# Altium footprint library JUMPER.PcbLib: 7 footprints
Each footprint in its own frame and in the unit in brackets; x right, y up, seen from the top. Pads: shape width x height; smd on the part's side, far side on the other; paste and mask are expansions set on the pad; w line width, h text height; cw(c..) or ccw(c..) is an arc to the next point about the centre after c.
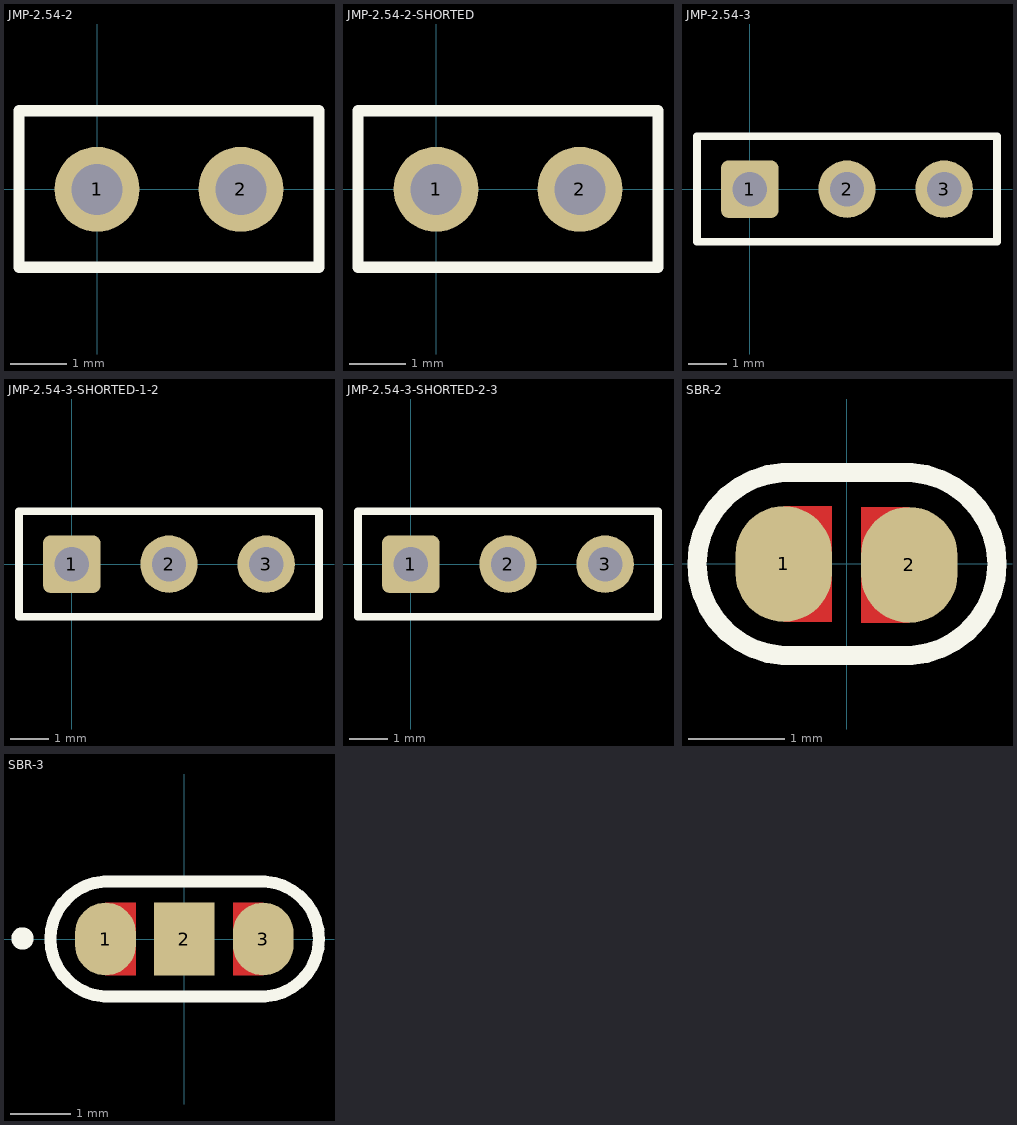
[diagram p0: the footprints below, top view; thin cyan lines are the x and y axes]

## JMP-2.54-2 [mm] "Jumper; Header; 2 Position"
pads (2):
  round 1.5 hole 0.9: 1(0,0) 2(2.54,0)
Top Overlay:
  lines w0.2: -1.38,-1.38 -1.38,1.39 3.92,1.39 3.92,-1.38 -1.38,-1.38
3D body "User Library-PLD-2-1.step": height 8.44, standoff -3, extent -1.27,-1.27 3.81,1.27

## JMP-2.54-2-SHORTED [mm] "Jumper; Header; 2 Position; Shorted"
pads (2):
  round 1.5 hole 0.9: 1(0,0) 2(2.54,0)
Top Overlay:
  lines w0.2: -1.38,-1.38 3.92,-1.38 3.92,1.39 -1.38,1.39 -1.38,-1.38
3D body "User Library-PLD-2-1.step": height 8.44, standoff -3, extent -1.27,-1.27 3.81,1.27
3D body "jumper_aksnt_g-black.stp": height 8.25, standoff 3.75, extent -1.23,-1.2 3.77,1.2

## JMP-2.54-3 [mm] "Jumper; Header; 3 Position"
pads (3):
  rrect25% 1.5x1.5 hole 0.9: 1(0,0)
  round 1.5 hole 0.9: 2(2.54,0) 3(5.08,0)
Top Overlay:
  lines w0.2: -1.38,-1.37 6.46,-1.37 6.46,1.38 -1.38,1.38 -1.38,-1.37
3D body "User Library-PLS-3.step": height 8.54, standoff -3, extent -1.27,-1.27 6.35,1.27

## JMP-2.54-3-SHORTED-1-2 [mm] "Jumper; Header; 3 Position; Shorted"
pads (3):
  rrect25% 1.5x1.5 hole 0.9: 1(0,0)
  round 1.5 hole 0.9: 2(2.54,0) 3(5.08,0)
Top Overlay:
  lines w0.2: -1.38,-1.37 -1.38,1.38 6.46,1.38 6.46,-1.37 -1.38,-1.37
3D body "User Library-PLS-3.step": height 8.54, standoff -3, extent -1.27,-1.27 6.35,1.27
3D body "jumper_aksnt_g-black.stp": height 8.25, standoff 3.75, extent -1.21,-1.2 3.79,1.2

## JMP-2.54-3-SHORTED-2-3 [mm] "Jumper; Header; 3 Position; Shorted"
pads (3):
  rrect25% 1.5x1.5 hole 0.9: 1(0,0)
  round 1.5 hole 0.9: 2(2.54,0) 3(5.08,0)
Top Overlay:
  lines w0.2: -1.38,-1.37 -1.38,1.38 6.46,1.38 6.46,-1.37 -1.38,-1.37
3D body "User Library-PLS-3.step": height 8.54, standoff -3, extent -1.27,-1.27 6.35,1.27
3D body "jumper_aksnt_g-black.stp": height 8.25, standoff 3.75, extent 1.32,-1.2 6.32,1.2

## SBR-2 [mm] "SolderJumper; 2 Positions"
pads (2):
  oval 1x1.2 smd mask+0.05: 1(-0.65,0) 2(0.65,-0.01)
Top Layer:
  rectangle: -0.65,-0.6 -0.15,0.6
  rectangle: 0.15,-0.61 0.65,0.59
Top Overlay:
  lines w0.2: -0.661,-0.949 cw(c-0.599,0) -0.661,0.949 0.67,0.949 cw(c0.609,0) 0.67,-0.949 -0.661,-0.949

## SBR-3 [mm] "SolderJumper; 3 Positions"
pads (3):
  oval 1x1.2 smd mask+0.05: 1(-1.3,0) 3(1.3,0)
  rect 1x1.2 smd mask+0.05: 2(0,0)
Top Layer:
  rectangle: -1.3,-0.6 -0.8,0.6
  rectangle: 0.8,-0.6 1.3,0.6
Top Overlay:
  circle w0.254: c-2.67,0.01 r0.057
  lines w0.2: -1.32,-0.949 cw(c-1.259,0) -1.32,0.949 1.33,0.949 cw(c1.269,0) 1.33,-0.949 -1.32,-0.949